# Altium footprint library TYPE-C-SMD_HX-TYPE-C-16PIN.PcbLib: 1 footprints
Each footprint in its own frame and in the unit in brackets; x right, y up, seen from the top. Pads: shape width x height; smd on the part's side, far side on the other; paste and mask are expansions set on the pad; w line width, h text height; cw(c..) or ccw(c..) is an arc to the next point about the centre after c.
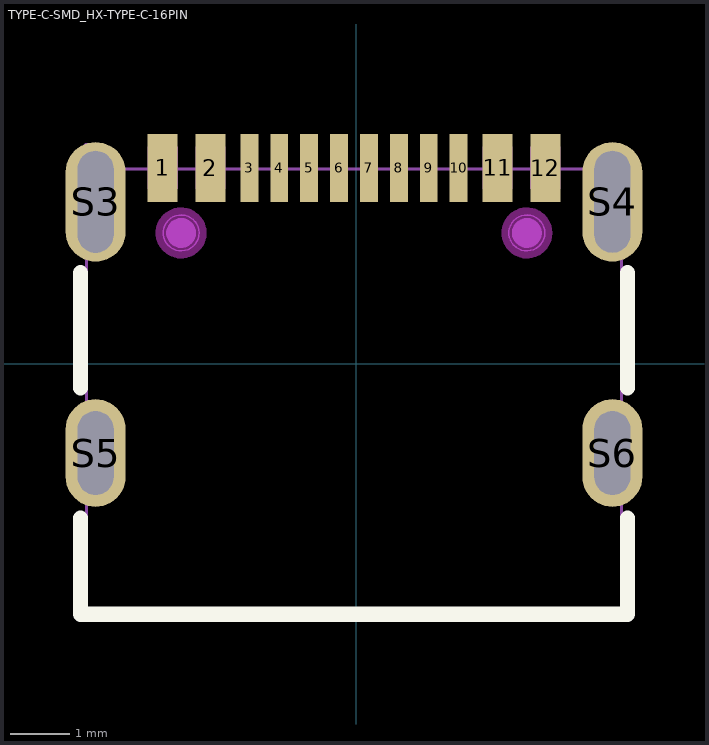
[diagram p0: the footprint, top view; thin cyan lines are the x and y axes]

## TYPE-C-SMD_HX-TYPE-C-16PIN [mm]
pads (16):
  rect 0.5x1.14 smd paste-100 mask+0.051: 1(-3.237,3.272) 2(-2.437,3.272) 11(2.363,3.272) 12(3.163,3.272)
  rect 0.3x1.14 smd paste-100 mask+0.051: 3(-1.787,3.273) 4(-1.287,3.272) 5(-0.787,3.272) 6(-0.287,3.272) 7(0.213,3.272) 8(0.713,3.272) 9(1.213,3.273) 10(1.713,3.272)
  oval 1x2 hole 0.6 slot 1.7 at 90 deg: S3(-4.357,2.705) S4(4.283,2.705)
  oval 1x1.8 hole 0.6 slot 1.4 at 90 deg: S5(-4.357,-1.495) S6(4.283,-1.495)
Top Overlay:
  lines w0.254: -4.609,-2.581 -4.609,-4.191 4.535,-4.191 4.535,-2.581 ; -4.609,-0.409 -4.609,1.519 ; 4.535,-0.409 4.535,1.519
Top Paste:
  drawing of 16 lines, arcs and shapes, not listed
Keep-Out Layer:
  board cut-out: -2.627,2.185 -2.627,2.245 -2.673,2.355 -2.757,2.439 -2.867,2.485 -2.987,2.485 -3.097,2.439 -3.181,2.355 -3.227,2.245 -3.227,2.185 -3.227,2.125 -3.181,2.015 -3.097,1.931 -2.987,1.885 -2.867,1.885 -2.757,1.931 -2.673,2.015 -2.627,2.125
  board cut-out: 3.153,2.185 3.153,2.245 3.107,2.355 3.023,2.439 2.913,2.485 2.793,2.485 2.683,2.439 2.599,2.355 2.553,2.245 2.553,2.185 2.553,2.125 2.599,2.015 2.683,1.931 2.793,1.885 2.913,1.885 3.023,1.931 3.107,2.015 3.153,2.125
Keep-Out Layer:
  circle w0.254: c-2.927,2.185 r0.3
  circle w0.025: c-2.927,2.185 r0.3
  circle w0.254: c2.853,2.185 r0.3
  circle w0.025: c2.853,2.185 r0.3
Mechanical 1:
  circle w0.025: c-2.927,2.185 r0.3
  circle w0.025: c2.853,2.185 r0.3
Mechanical 6:
  circle w0.25: c2.853,2.185 r0.125
  circle w0.25: c-2.927,2.185 r0.125
Mechanical 15:
  region: 4.133,-1.095 4.433,-1.095 4.433,-1.895 4.133,-1.895
  region: -4.507,-1.095 -4.207,-1.095 -4.207,-1.895 -4.507,-1.895
  region: 4.133,3.305 4.433,3.305 4.433,2.105 4.133,2.105
  region: -4.507,3.305 -4.207,3.305 -4.207,2.105 -4.507,2.105
  region: -3.487,3.622 -2.987,3.622 -2.987,2.922 -3.487,2.922
  region: -2.687,3.622 -2.187,3.622 -2.187,2.922 -2.687,2.922
  region: 2.913,3.622 3.413,3.622 3.413,2.922 2.913,2.922
  region: 2.113,3.622 2.613,3.622 2.613,2.922 2.113,2.922
  region: 1.588,3.622 1.838,3.622 1.838,2.922 1.588,2.922
  region: 1.088,3.623 1.338,3.623 1.338,2.923 1.088,2.923
  region: 0.588,3.622 0.838,3.622 0.838,2.922 0.588,2.922
  region: 0.088,3.622 0.338,3.622 0.338,2.922 0.088,2.922
  region: -0.412,3.622 -0.162,3.622 -0.162,2.922 -0.412,2.922
  region: -0.912,3.622 -0.662,3.622 -0.662,2.922 -0.912,2.922
  region: -1.412,3.622 -1.162,3.622 -1.162,2.922 -1.412,2.922
  region: -1.912,3.623 -1.662,3.623 -1.662,2.923 -1.912,2.923
  region: -4.447,3.623 -4.447,3.648 -4.482,3.683 -4.532,3.683 -4.567,3.648 -4.567,3.623 -4.567,3.598 -4.532,3.563 -4.482,3.563 -4.447,3.598
  lines w0.051: -4.507,-4.095 4.433,-4.095 4.433,3.255 -4.507,3.255 -4.507,-4.095
3D body "KH-TYPE-C-16P--3DModel-STEP-269445.STEP": height 3.41, standoff -1.1, extent -4.521,-4.286 4.419,3.524